# Altium schematic symbol library IR2110.SchLib: 1 symbol
Pins are listed as number, name and electrical type; pins without a type are passive.

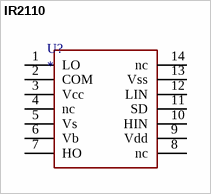
[diagram p0: symbol IR2110]

## IR2110
designator U?
IR21531
footprint DIP14
pins: 1 LO "Termal Pad", 2 COM "Termal Pad", 3 Vcc "Termal Pad", 4 nc "Termal Pad", 5 Vs "Termal Pad", 6 Vb "Termal Pad", 7 HO "Termal Pad", 8 nc "Termal Pad", 9 Vdd "Termal Pad", 10 HIN "Termal Pad", 11 SD "Termal Pad", 12 LIN "Termal Pad", 13 Vss "Termal Pad", 14 nc "Termal Pad"